# Altium integrated library MAX1771CPA_.IntLib: 1 symbol
Pins are listed as number, name and electrical type; pins without a type are passive.

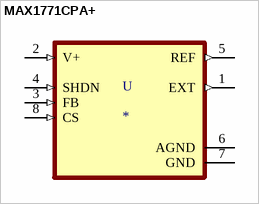
[diagram p0: symbol MAX1771CPA+]

## MAX1771CPA+
designator U
Boost, Buck-Boost Regulator Positive Output Step-Up, Step-Up/Step-Down DC-DC Controller IC 8-PDIP; MF: Maxim Integrated; MP: MAX1771CPA+; Mouser-Purchase-URL: https://snapeda.com/shop?store=Mouser&id=573969; SnapEDA_Link: https://www.snapeda.com/parts/MAX1771CPA+/Maxim%20Integrated/view-part/573969/?ref=snap; DigiKey-Purchase-URL: https://snapeda.com/shop?store=DigiKey&id=573969; Package: PDIP-8 Maxim; Price: None; Availability: Unavailable; Value: *
footprint DIP794W47P254L991H457Q8
pins: 1 EXT (out), 2 V+ (in), 3 FB (in), 4 SHDN (in), 5 REF (out), 6 AGND (power), 7 GND (power), 8 CS (in)